# Altium footprint library Own_lib.PcbLib: 52 footprints (part 2 of 4)
Each footprint in its own frame and in the unit in brackets; x right, y up, seen from the top. Pads: shape width x height; smd on the part's side, far side on the other; paste and mask are expansions set on the pad; w line width, h text height; cw(c..) or ccw(c..) is an arc to the next point about the centre after c.
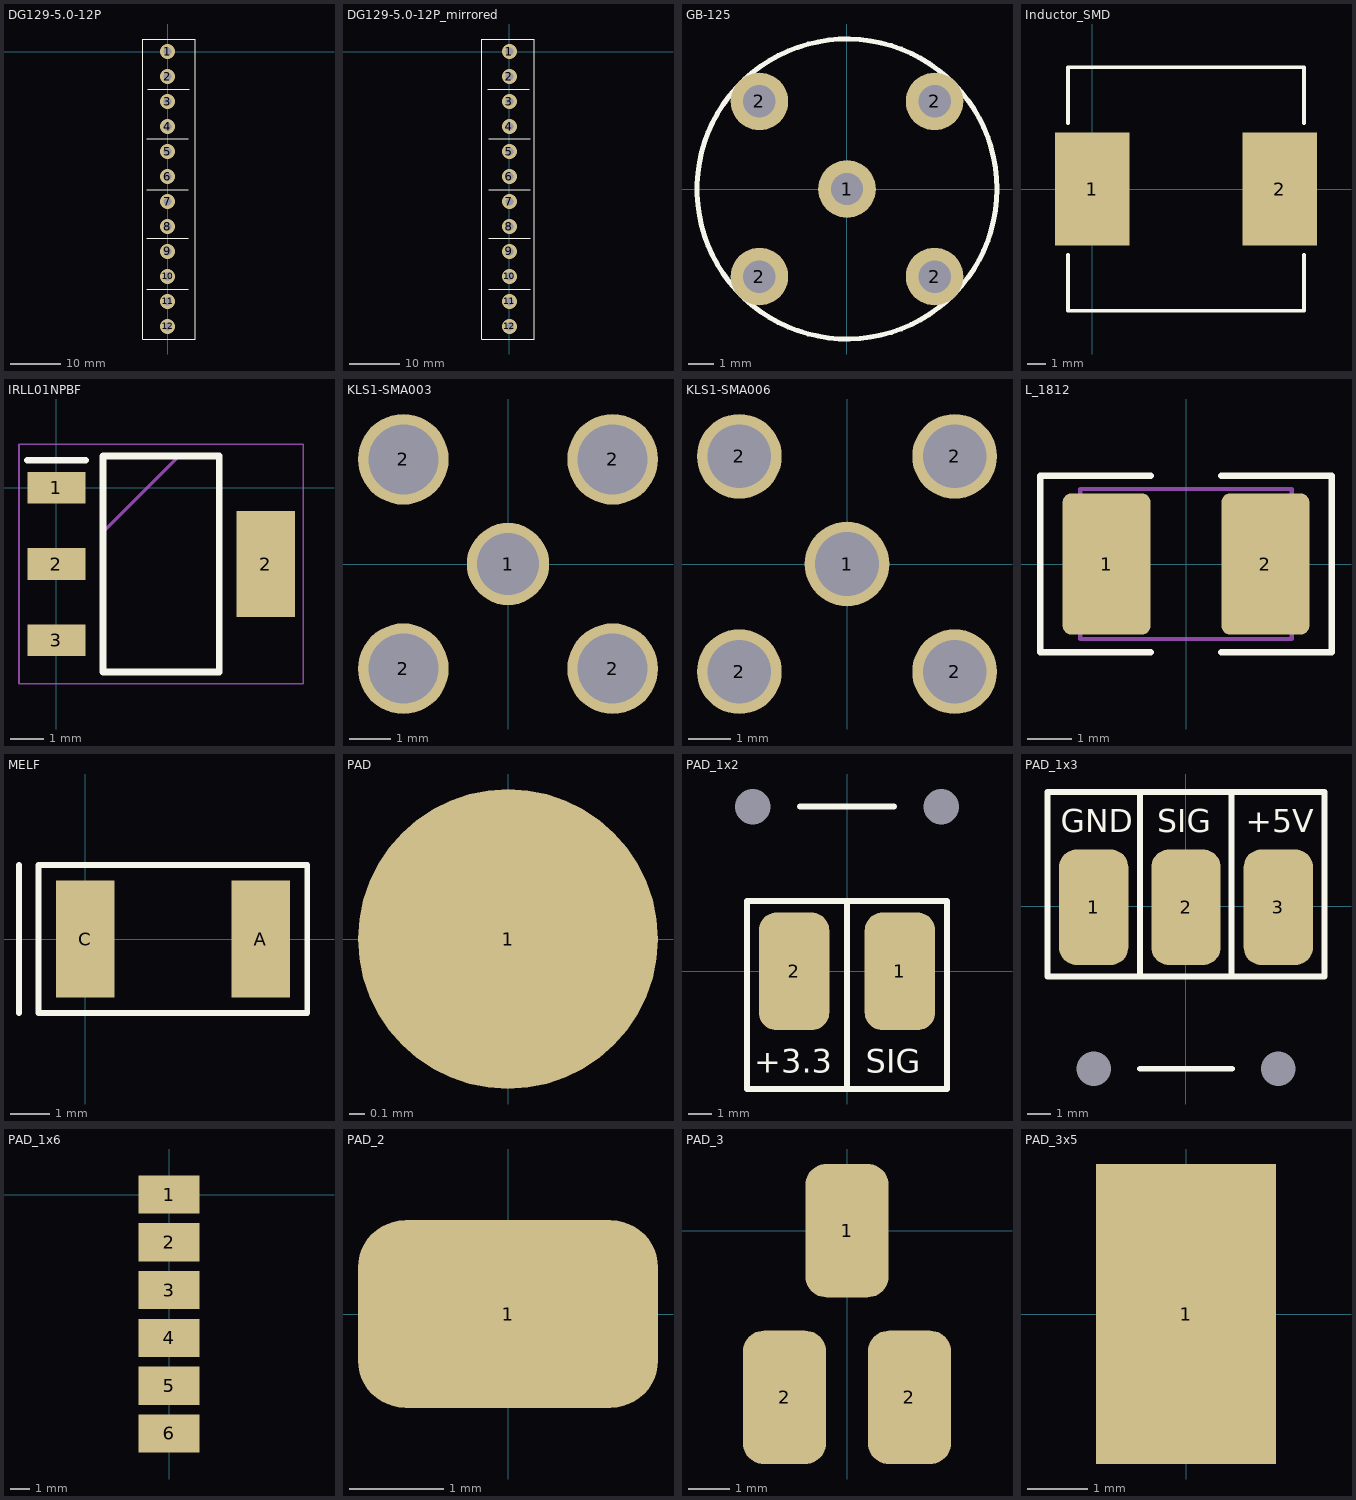
[diagram p1: the footprints below, top view; thin cyan lines are the x and y axes]

## DG129-5.0-12P [mm]
pads (12):
  round 3 hole 1.6: 1(0,0) 2(0,-5) 3(0,-10) 4(0,-15) 5(0,-20) 6(0,-25) 7(0,-30) 8(0,-35) 9(0,-40) 10(0,-45) 11(0,-50) 12(0,-55)
Top Overlay:
  lines w0.15: -4.2,-47.6 4.2,-47.6 ; -4.2,-37.4 4.2,-37.4 ; -4.2,-27.6 4.2,-27.6 ; -4.2,-17.4 4.2,-17.4 ; -4,-7.5 4.4,-7.5 ; -5,-57.5 -5,2.5 5.6,2.5 5.6,-57.5 -5,-57.5
3D body "DG1295002P14.stp": height 19.55, standoff -3.9, extent -5.003,-8.1 5.497,3
3D body "DG1295002P14.stp": height 19.55, standoff -3.9, extent -5.003,-18.1 5.497,-7
3D body "DG1295002P14.stp": height 19.55, standoff -3.9, extent -5.003,-28.1 5.497,-17
3D body "DG1295002P14.stp": height 19.55, standoff -3.9, extent -5.003,-38.1 5.497,-27
3D body "DG1295002P14.stp": height 19.55, standoff -3.9, extent -5.003,-48.1 5.497,-37
3D body "DG1295002P14.stp": height 19.55, standoff -3.9, extent -5.003,-58.1 5.497,-47

## DG129-5.0-12P_mirrored [mm]
pads (12):
  round 3 hole 1.6: 1(0,0) 2(0,-5) 3(0,-10) 4(0,-15) 5(0,-20) 6(0,-25) 7(0,-30) 8(0,-35) 9(0,-40) 10(0,-45) 11(0,-50) 12(0,-55)
Top Overlay:
  lines w0.15: -4.4,-7.5 4,-7.5 ; -4.2,-47.6 4.2,-47.6 ; -4.2,-37.4 4.2,-37.4 ; -4.2,-27.6 4.2,-27.6 ; -4.2,-17.4 4.2,-17.4 ; -5.6,-57.5 5,-57.5 5,2.5 -5.6,2.5 -5.6,-57.5
3D body "DG1295002P14.stp": height 19.55, standoff -3.9, extent -5.497,-58.2 5.003,-47.1
3D body "DG1295002P14.stp": height 19.55, standoff -3.9, extent -5.497,-48.2 5.003,-37.1
3D body "DG1295002P14.stp": height 19.55, standoff -3.9, extent -5.497,-38.2 5.003,-27.1
3D body "DG1295002P14.stp": height 19.55, standoff -3.9, extent -5.497,-28.2 5.003,-17.1
3D body "DG1295002P14.stp": height 19.55, standoff -3.9, extent -5.497,-18.2 5.003,-7.1
3D body "DG1295002P14.stp": height 19.55, standoff -3.9, extent -5.497,-8.2 5.003,2.9

## GB-125 [mm]
pads (5):
  round 2.3 hole 1.3: 1(0,0) 2(-3.5,-3.5) 2(-3.5,3.5) 2(3.5,-3.5) 2(3.5,3.5)
Top Overlay:
  circle w0.2: c0,0 r6
3D body: height 19, standoff 0, extent -5.5,-5.5 5.5,5.5

## Inductor_SMD [mm]
pads (2):
  rect 4x6 smd paste+0: 1(0,0) 2(10,0)
Top Overlay:
  lines w0.2: -1.3,-3.5 -1.3,-6.5 11.3,-6.5 11.3,-3.5 ; -1.3,3.5 -1.3,6.5 11.3,6.5 11.3,3.5
3D body: height 8, standoff -0.1, extent -1.3,-6.5 11.3,6.5

## IRLL01NPBF [mm]
pads (4):
  rect 1.75x0.95 smd: 1(0,0) 2(0,-2.3) 3(0,-4.6)
  rect 1.75x3.2 smd: 2(6.3,-2.3)
Top Overlay:
  lines w0.2: -0.875,0.825 0.875,0.825 ; 1.4,-5.55 4.9,-5.55 4.9,0.95 1.4,0.95 1.4,-5.55
Mechanical 13:
  lines w0.1: 1.4,-1.35 3.7,0.95 ; 1.4,-5.55 4.9,-5.55 4.9,0.95 1.4,0.95 1.4,-5.55
Mechanical 15:
  lines w0.05: -1.125,-5.9 7.425,-5.9 7.425,1.3 -1.125,1.3 -1.125,-5.9
3D body "LM317AEMP.stp": height 1.68, standoff 0, extent -0.35,-5.55 6.65,0.95

## KLS1-SMA003 [mm]
pads (5):
  round 2 hole 1.5: 1(0,0)
  round 2.2 hole 1.7: 2(-2.54,-2.54) 2(-2.54,2.54) 2(2.54,-2.54) 2(2.54,2.54)
3D body: height 1.5, standoff 0, extent -3.5,-3.5 3.5,3.5
3D body: height 0, standoff -2.8, extent -0.65,-0.65 0.65,0.65
3D body: height 0, standoff -3.9, extent 2.04,2.04 3.04,3.04
3D body: height 0, standoff -3.9, extent 2.04,-3.04 3.04,-2.04
3D body: height 0, standoff -3.9, extent -3.04,-3.04 -2.04,-2.04
3D body: height 0, standoff -3.9, extent -3.04,2.04 -2.04,3.04
3D body: height 9.5, standoff 1.5, extent -3.35,-3.3 3.25,3.3

## KLS1-SMA006 [mm]
pads (5):
  round 2 hole 1.5: 1(0,0) 2(-2.54,-2.54) 2(-2.54,2.54) 2(2.54,-2.54) 2(2.54,2.54)
3D body: height 0, standoff -2.8, extent -3.04,2.04 -2.04,3.04
3D body: height 0, standoff -2.8, extent -3.04,-3.04 -2.04,-2.04
3D body: height 0, standoff -2.8, extent 2.04,-3.04 3.04,-2.04
3D body: height 0, standoff -2.8, extent 2.04,2.04 3.04,3.04
3D body: height 0, standoff -2.8, extent -0.65,-0.65 0.65,0.65
3D body: height 10, standoff 3.4, extent -13.5,-3.3 -3.5,3.3
3D body: height 10, standoff 0, extent -3.5,-3.5 3.5,3.5

## L_1812 [mm]
pads (2):
  rrect20% 2x3.2 smd: 1(-1.8,0) 2(1.8,0)
Top Overlay:
  lines w0.15: -0.8,-2 -3.3,-2 -3.3,2 -0.8,2 ; 0.8,-2 3.3,-2 3.3,2 0.8,2
Top 3D Body:
  lines w0.1: -2.4,-1.7 2.4,-1.7 2.4,1.7 -2.4,1.7 -2.4,-1.7
3D body: height 0.8, standoff 0, extent -2.3,-1.6 2.3,1.6
3D body: height 2.6, standoff 1.8, extent -1.8,-1.6 1.8,1.6
3D body: height 1.8, standoff 0.8, extent -1.6,-1.4 1.6,1.4

## MELF [mm]
pads (2):
  rect 1.5x3 smd paste+0 mask+0.102: A(4.5,0) C(0,0)
Top Overlay:
  lines w0.15: -1.7,-1.9 -1.7,1.9 ; -1.2,-1.9 -1.2,1.9 -0.9,1.9 5.5,1.9 5.7,1.9 5.7,-1.9 -1.2,-1.9
3D body: height 2.5, standoff 0, extent -0.2,-1.25 4.8,1.25

## PAD [mm]
pads (1):
  round 2 smd paste+0 mask+0.102: 1(0,0)

## PAD_1x2 [mm]
pads (4):
  rrect50% 3x5 smd: 1(2.25,0) 2(-2.25,0)
  round 0 hole 1.5 unplated paste-2539.97 mask+0.5: 4(-4,7) 4(4,7)
Top Overlay:
  lines w0.254: -2,7 2,7 ; 0,-5 0,3 ; -4.25,-5 -4.25,3 4.25,3 4.25,-5 -4.25,-5
  text "+3.3" at -3.949,-4.3 h1
  text "SIG" at 0.801,-4.3 h1

## PAD_1x3 [mm]
pads (5):
  rrect50% 3x5 smd: 1(-3.991,-0.049) 2(0.009,-0.049) 3(4.009,-0.049)
  round 0 hole 1.5 unplated paste-2539.97 mask+0.5: 4(-3.991,-7.049) 4(4.009,-7.049)
Top Overlay:
  lines w0.254: -1.991,-7.049 2.009,-7.049 ; -1.991,-3.049 -1.991,4.951 ; 1.985,-3.049 1.985,4.951 ; -5.991,-3.049 6.009,-3.049 6.009,4.951 -5.991,4.951 -5.991,-3.049
  text "GND" at -5.411,3.205 h1
  text "+5V" at 2.589,3.205 h1
  text "SIG" at -1.244,3.205 h1

## PAD_1x6 [mm]
pads (6):
  rect 3.2x2 smd paste+0 mask+0.102: 1(0,0) 2(0,-2.5) 3(0,-5) 4(0,-7.5) 5(0,-10) 6(0,-12.5)

## PAD_2 [mm]
pads (1):
  rrect50% 3.2x2 smd paste+0 mask+0.102: 1(0,0)

## PAD_3 [mm]
pads (3):
  rrect50% 2x3.2 smd paste+0 mask+0.102: 1(0,0) 2(-1.5,-4) 2(1.5,-4)

## PAD_3x5 [mm]
pads (1):
  rect 3x5 smd paste+0 mask+0.102: 1(0,0)